# EAGLE library part EA_DOGS164-A (library ea_v66)
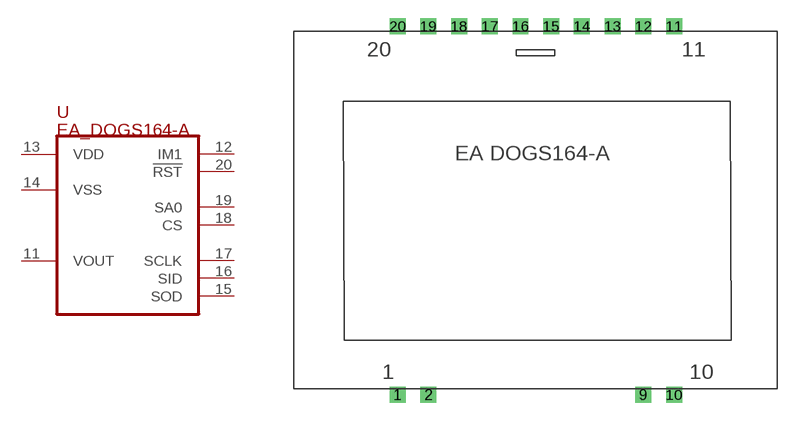
[diagram p22: symbol with the pads of EA_DOGS164-A; footprint EA_DOGS164-A]

Designator prefix -

## EA_DOGS164-A  [EA_DOGS164-A]
11  VOUT  sup
12  IM1  in
13  VDD  pwr
14  VSS  pwr
15  SOD  out
16  SID  in
17  SCLK  in
18  CS  in
19  SA0  in
20  !RST!  in

## Footprint EA_DOGS164-A (pad centres in mm)
EA DOGS164-A Textdisplay COG 4 Zeilen a 16 Zeichen inkl.Kontroller SSD1803A SPI und I2C Schnittstellen LED-Backlight EA LED40X33 Hersteller: ELECTRONIC ASSEMBLY GmbH http://www.lcd-module.de
drill 0.813 square: 1 0,0; 2 2.54,0; 9 20.32,0; 10 22.86,0; 11 22.86,30.48; 12 20.32,30.48; 13 17.78,30.48; 14 15.24,30.48; 15 12.7,30.48; 16 10.16,30.48; 17 7.62,30.48; 18 5.08,30.48; 19 2.54,30.48; 20 0,30.48